# EAGLE library part WISMO228 (library WISMO228)
Modulo GSM/GPRS WISMO228 SIERRA WIRELESS TM
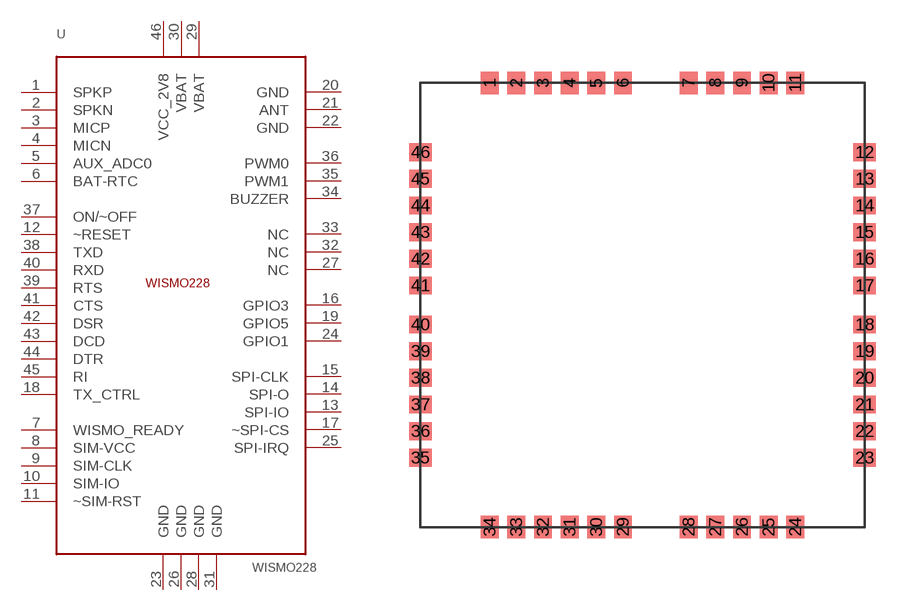
[diagram p0: symbol with the pads of WISMO228; footprint WISMO228]

Designator prefix -

## WISMO228  [WISMO228]
1  SPKP
2  SPKN
3  MICP
4  MICN
5  AUX_ADC0
6  BAT-RTC
7  WISMO_READY
8  SIM-VCC
9  SIM-CLK
10  SIM-IO
11  ~SIM-RST
12  ~RESET
13  SPI-IO
14  SPI-O
15  SPI-CLK
16  GPIO3
17  ~SPI-CS
18  TX_CTRL
19  GPIO5
20  GND
21  ANT
22  GND
23  GND
24  GPIO1
25  SPI-IRQ
26  GND
27  NC
28  GND
29  VBAT
30  VBAT
31  GND
32  NC
33  NC
34  BUZZER
35  PWM1
36  PWM0
37  ON/~OFF
38  TXD
39  RTS
40  RXD
41  CTS
42  DSR
43  DCD
44  DTR
45  RI
46  VCC_2V8

## Footprint WISMO228 (pad centres in mm)
smd 1 x 1.27: 1 -8.8,13.57; 2 -7.3,13.57; 3 -5.8,13.57; 4 -4.3,13.57; 5 -2.8,13.57; 6 -1.3,13.57; 7 2.4,13.57; 8 3.9,13.57; 9 5.4,13.57; 10 6.9,13.57; 11 8.4,13.57; 24 8.4,-11.43; 25 6.9,-11.43; 26 5.4,-11.43; 27 3.9,-11.43; 28 2.4,-11.43; 29 -1.3,-11.43; 30 -2.8,-11.43; 31 -4.3,-11.43; 32 -5.8,-11.43; 33 -7.3,-11.43; 34 -8.8,-11.43
smd 1.27 x 1: 12 12.3,9.67; 13 12.3,8.17; 14 12.3,6.67; 15 12.3,5.17; 16 12.3,3.67; 17 12.3,2.17; 18 12.3,-0.03; 19 12.3,-1.53; 20 12.3,-3.03; 21 12.3,-4.53; 22 12.3,-6.03; 23 12.3,-7.53; 35 -12.7,-7.53; 36 -12.7,-6.03; 37 -12.7,-4.53; 38 -12.7,-3.03; 39 -12.7,-1.53; 40 -12.7,-0.03; 41 -12.7,2.17; 42 -12.7,3.67; 43 -12.7,5.17; 44 -12.7,6.67; 45 -12.7,8.17; 46 -12.7,9.67